# EAGLE library part 61301411021 (library Board-to-Board (rev18a))
WR-PHD 2.54mm Angled Pin Header, 14 Pins =>Con_BTB_PHD_2.54_1_THT_61301411021 <http://katalog.we-online.de/media/images/eican/Con_BTB_PHD_2.54_1_THT_61303211021_pf2.jpg> Details see: http://katalog.we-online.de/en/em/613_0xx_110_21 Created 2014-05-29, Karrer Zheng 2014 (C) Würth Elektronik
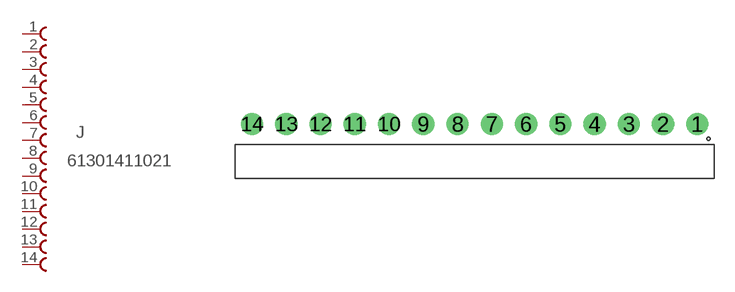
[diagram p45: symbol with the pads of 61301411021; footprint 61301411021]

Designator prefix J

## 61301411021  [61301411021]
1  1  pas
2  2  pas
3  3  pas
4  4  pas
5  5  pas
6  6  pas
7  7  pas
8  8  pas
9  9  pas
10  10  pas
11  11  pas
12  12  pas
13  13  pas
14  14  pas

## Footprint 61301411021 (pad centres in mm)
WR-PHD 2.54mm Angled Pin Header, 14 Pins
drill 1.1: 1 16.51,0; 2 13.97,0; 3 11.43,0; 4 8.89,0; 5 6.35,0; 6 3.81,0; 7 1.27,0; 8 -1.27,0; 9 -3.81,0; 10 -6.35,0; 11 -8.89,0; 12 -11.43,0; 13 -13.97,0; 14 -16.51,0